# Altium schematic symbol library 74系列芯片.SchLib: 7 symbols
Pins are listed as number, name and electrical type; pins without a type are passive.

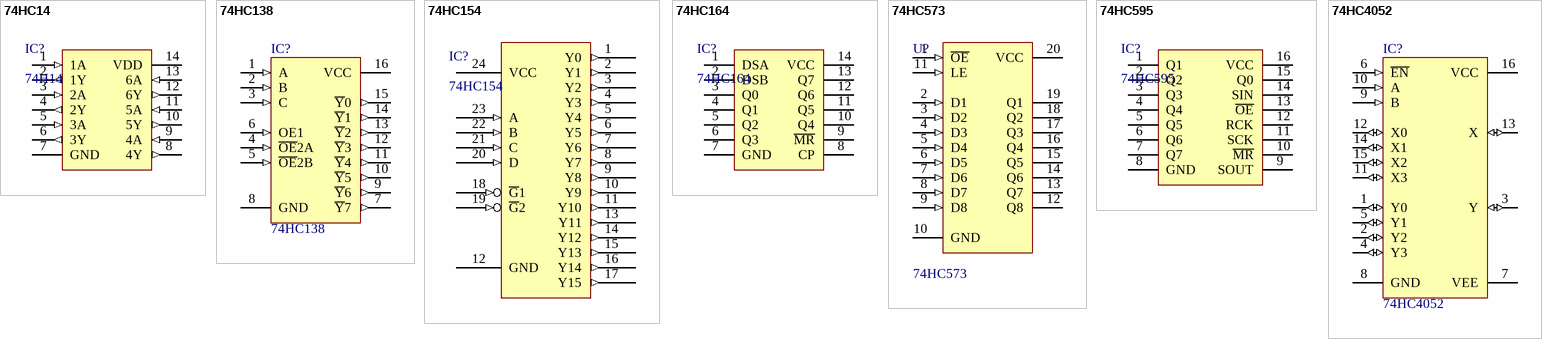
[diagram p0: symbols 74HC14 to 74HC4052]

## 74HC14
designator IC?, comment 74H14
COMS反相器; 版权归属: 源创客; BOM名称: COMS反相器; 学习资源: www.ooocke.com
footprint SOP14_N (8.7*6.2*1.8mm（长宽高）)
footprint SOP14_L (8.7*6.2*1.8mm（长宽高）)
footprint SOP14_M (8.7*6.2*1.8mm（长宽高）)
footprint DIP14-300 (19*7.6*3.8(长宽高）)
pins: 1 1A (in), 2 1Y (out), 3 2A (in), 4 2Y (out), 5 3A (in), 6 3Y (out), 7 GND (power), 8 4Y (out), 9 4A (in), 10 5Y (out), 11 5A (in), 12 6Y (out), 13 6A (in), 14 VDD (power)

## 74HC138
designator IC?
138译码器; 版权归属: 源创客; 学习资源: www.ooocke.com; BOM名称: 138译码器
footprint DIP16-300 (19.3*7.6*3.8(长宽高）)
footprint SOP16_L (10.3*6.2*1.8mm（长宽高）)
footprint SOP16_N (10.3*6.2*1.8mm（长宽高）)
footprint SOP16_M (10.3*6.2*1.8mm（长宽高）)
pins: 1 A (in), 2 B (in), 3 C (in), 4 ~{OE}2A (in), 5 ~{OE}2B (in), 6 OE1 (in), 7 ~{Y}7 (out), 8 GND (power), 9 ~{Y}6 (out), 10 ~{Y}5 (out), 11 ~{Y}4 (out), 12 ~{Y}3 (out), 13 ~{Y}2 (out), 14 ~{Y}1 (out), 15 ~{Y}0 (out), 16 VCC (power)

## 74HC154
designator IC?
4线转16线译码器; 版权归属: 源创客; BOM名称: 4线转16线译码器; 学习资源: www.ooocke.com
footprint DIP24-300 (31*7.6*3.8(长宽高）)
footprint DIP24-300_MH (带底座 31*7.6*3.8(长宽高）)
footprint SOP24_L (15.4*10.6*2.6mm（长宽高）)
footprint SOP24_M (15.4*10.6*2.6mm（长宽高）)
footprint SOP24_N (15.4*10.6*2.6mm（长宽高）)
pins: 1 Y0 (out), 2 Y1 (out), 3 Y2 (out), 4 Y3 (out), 5 Y4 (out), 6 Y5 (out), 7 Y6 (out), 8 Y7 (out), 9 Y8 (out), 10 Y9 (out), 11 Y10 (out), 12 GND (power), 13 Y11 (out), 14 Y12 (out), 15 Y13 (out), 16 Y14 (out), 17 Y15 (out), 18 ~{G}1 (in), 19 ~{G}2 (in), 20 D (in), 21 C (in), 22 B (in), 23 A (in), 24 VCC (power)

## 74HC164
designator IC?
8位串入并出移位寄存器; 版权归属: 源创客; BOM名称: 8位串入并出移位寄存器; 学习资源: www.ooocke.com
footprint SOP14_N (8.7*6.2*1.8mm（长宽高）)
footprint SOP14_L (8.7*6.2*1.8mm（长宽高）)
footprint SOP14_M (8.7*6.2*1.8mm（长宽高）)
footprint DIP14-300 (19*7.6*3.8(长宽高）)
pins: 1 DSA, 2 DSB, 3 Q0, 4 Q1, 5 Q2, 6 Q3, 7 GND, 8 CP, 9 ~{MR}, 10 Q4, 11 Q5, 12 Q6, 13 Q7, 14 VCC

## 74HC573
designator U?
D类三态输出锁存器; 版权归属: 源创客; BOM名称: 三态输出锁存器; 学习资源: www.ooocke.com
footprint SOP20_L (13*10.6*2.6（长宽高）)
footprint SOP20_N (13*10.6*2.6（长宽高）)
footprint SOP20_M (13*10.6*2.6（长宽高）)
footprint DIP20-300 (26.4*7.6*3.8(长宽高）)
pins: 1 ~{OE} (in), 2 D1 (in), 3 D2 (in), 4 D3 (in), 5 D4 (in), 6 D5 (in), 7 D6 (in), 8 D7 (in), 9 D8 (in), 10 GND (power), 11 LE (in), 12 Q8 (hiz), 13 Q7 (hiz), 14 Q6 (hiz), 15 Q5 (hiz), 16 Q4 (hiz), 17 Q3 (hiz), 18 Q2 (hiz), 19 Q1 (hiz), 20 VCC (power)

## 74HC595
designator IC?
8位移位寄存器; 版权归属: 源创客; BOM名称: 8位移位寄存器; 学习资源: www.ooocke.com
footprint SOP16_N (10.3*6.2*1.8mm（长宽高）)
footprint SOP16_L (10.3*6.2*1.8mm（长宽高）)
footprint SOP16_M (10.3*6.2*1.8mm（长宽高）)
footprint DIP16-300 (19.3*7.6*3.8(长宽高）)
pins: 1 Q1, 2 Q2, 3 Q3, 4 Q4, 5 Q5, 6 Q6, 7 Q7, 8 GND, 9 SOUT, 10 ~{MR}, 11 SCK, 12 RCK, 13 ~{OE}, 14 SIN, 15 Q0, 16 VCC

## 74HC4052
designator IC?
双通道模拟开关; BOM名称: 74HC4052双通道模拟开关; 版权归属: 源创客; 学习资源: www.ooocke.com
footprint SOP16_N (10.3*6.2*1.8mm（长宽高）)
footprint SOP16_L (10.3*6.2*1.8mm（长宽高）)
footprint SOP16_M (10.3*6.2*1.8mm（长宽高）)
footprint DIP16-300 (19.3*7.6*3.8(长宽高）)
pins: 1 Y0 (io), 2 Y2 (io), 3 Y (io), 4 Y3 (io), 5 Y1 (io), 6 ~{EN} (in), 7 VEE (power), 8 GND (power), 9 B (in), 10 A (in), 11 X3 (io), 12 X0 (io), 13 X (io), 14 X1 (io), 15 X2 (io), 16 VCC (power)